# Altium footprint library TVS2200DRVR.PcbLib: 1 footprints
Each footprint in its own frame and in the unit in brackets; x right, y up, seen from the top. Pads: shape width x height; smd on the part's side, far side on the other; paste and mask are expansions set on the pad; w line width, h text height; cw(c..) or ccw(c..) is an arc to the next point about the centre after c.
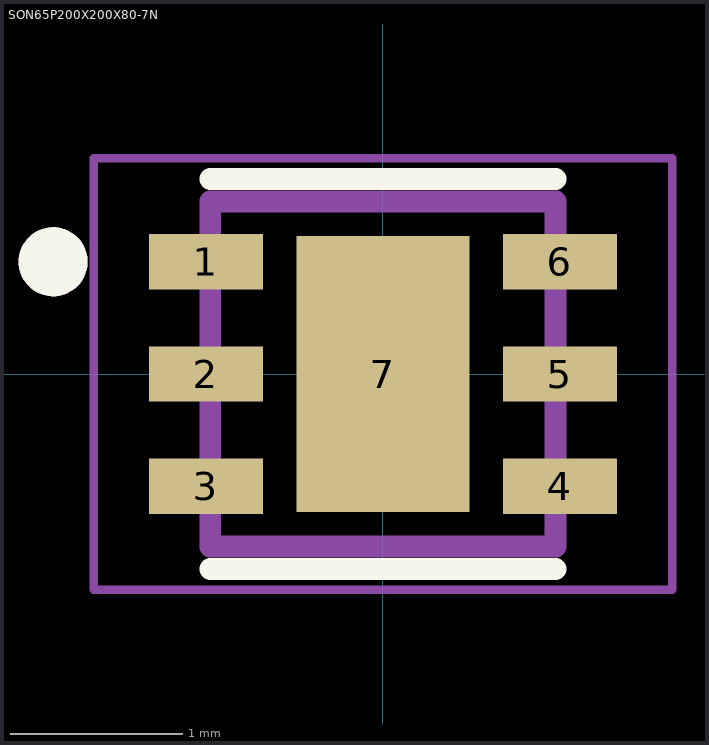
[diagram p0: the footprint, top view; thin cyan lines are the x and y axes]

## SON65P200X200X80-7N [mm]
pads (7):
  rect 0.66x0.32 smd: 1(-1.025,0.65) 2(-1.025,0) 3(-1.025,-0.65) 4(1.025,-0.65) 5(1.025,0) 6(1.025,0.65)
  rect 1x1.6 smd paste-2: 7(0,0)
Top Overlay:
  circle w0.2: c-1.91,0.65 r0.1
  lines w0.127: -1,-1.13 1,-1.13 ; -1,1.13 1,1.13
Mechanical 13:
  circle w0.2: c-1.91,0.65 r0.1
  lines w0.127: -1,-1 -1,1 1,1 1,-1 -1,-1
Mechanical 15:
  lines w0.05: -1.675,-1.25 -1.675,1.25 1.675,1.25 1.675,-1.25 -1.675,-1.25
3D body "step_temp.STEP": height 0.72, standoff -0.03, extent -1,-1 1,1